# Altium integrated library TJA1044.IntLib: 1 symbol
Pins are listed as number, name and electrical type; pins without a type are passive.

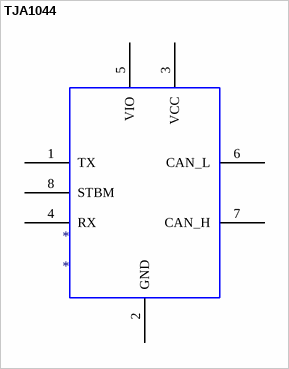
[diagram p0: symbol TJA1044]

## TJA1044
designator *
footprint SO8
pins: 1 TX, 2 GND, 3 VCC, 4 RX, 5 VIO, 6 CAN_L, 7 CAN_H, 8 STBM